# EAGLE library part ACS75XX (library be_sensor)
edited: Mario Blunk / Blunk electronic
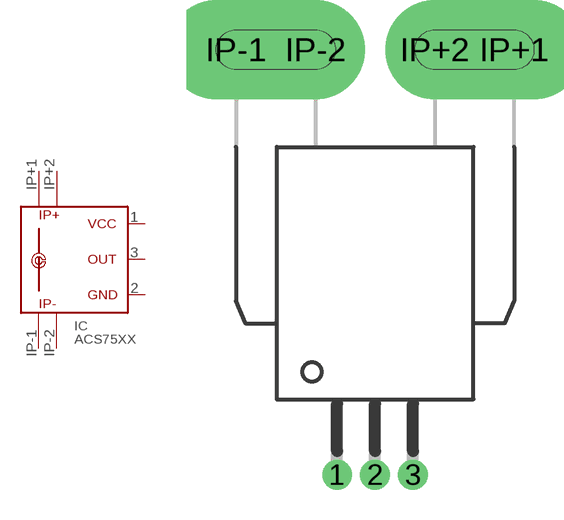
[diagram p0: symbol with the pads of T_CB-PFF; footprint T_CB-PFF]

Designator prefix IC

## ACS75XX (BOM: YES; COMMISSIONED: 2016-11-15; PART_CODE_BEL: IC_PAC_T_CB-PFF_VAL_ACS75xx)  [T_CB-PFF]
1  VCC  pwr
2  GND  pwr
3  OUT  out
IP+1  IP+1  pas
IP+2  IP+2  pas
IP-1  IP-1  pas
IP-2  IP-2  pas

## Footprint T_CB-PFF (pad centres in mm)
edited: Mario Blunk / Blunk electronic date: 2016-11-15
drill 0.8 pad 1.5: 1 -1.91,-21.4; 2 0,-21.4; 3 1.91,-21.4
drill 2 pad 4 offset: IP+1 7,0; IP-1 -7,0
drill 2 pad 5 offset: IP+2 3,0; IP-2 -3,0